# Altium footprint library Ferrit Bead.PcbLib: 5 footprints
Each footprint in its own frame and in the unit in brackets; x right, y up, seen from the top. Pads: shape width x height; smd on the part's side, far side on the other; paste and mask are expansions set on the pad; w line width, h text height; cw(c..) or ccw(c..) is an arc to the next point about the centre after c.
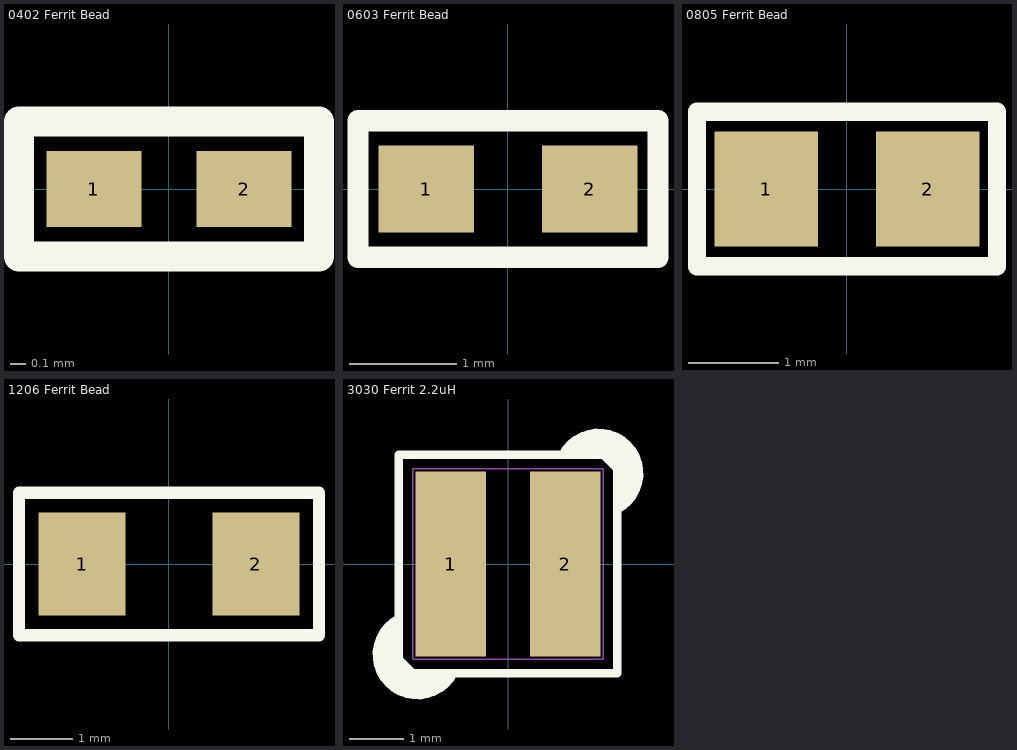
[diagram p0: the footprints below, top view; thin cyan lines are the x and y axes]

## 0402 Ferrit Bead [mil]
pads (2):
  rect 25x20 smd: 1(-19.69,0) 2(19.69,0)
Top Overlay:
  lines w7.87: -39.37,-17.72 39.37,-17.72 39.37,17.72 -39.37,17.72 -39.37,-17.72
3D body "User Library-FB_1005.STEP": height 9.84, standoff -9.84, extent -19.69,-9.84 19.69,9.84

## 0603 Ferrit Bead [mil]
pads (2):
  rect 35x32 smd: 1(-30,0) 2(30,0)
Top Overlay:
  lines w7.87: -55,-25 55,-25 55,25 -55,25 -55,-25
3D body "User Library-FB_1608-1.STEP": height 15.75, standoff -15.75, extent -31.5,-15.75 31.5,15.75

## 0805 Ferrit Bead [mil]
pads (2):
  rect 45x50 smd: 1(-35,0) 2(35,0)
Top Overlay:
  lines w7.87: -65,-33.46 -65,33.46 65,33.46 65,-33.46 -65,-33.46
3D body "User Library-FB_2012-1.STEP": height 33.46, standoff 0, extent -39.37,-24.61 39.37,24.6

## 1206 Ferrit Bead [mil]
pads (2):
  rect 55x65 smd: 1(-55,0) 2(55,0)
Top Overlay:
  lines w7.87: -95,-45 95,-45 95,45 -95,45 -95,-45
3D body "User Library-1206 Ferrite bead.STEP": height 25.63, standoff -25.63, extent -63,-31.5 63,31.5

## 3030 Ferrit 2.2uH [mm]
pads (2):
  rect 1.3x3.4 smd: 1(-1.05,0) 2(1.05,0)
Top Overlay:
  lines w0.15: -2.4,-1.6 -1.6,-2.4 ; -2.1,-1.7 -2.1,-1.15 -2.2,-1.2 -2.2,-1.575 -1.675,-2.1 -1.2,-2.1 -1.2,-2 -1.5,-2.3 ; -1.6,-2 -1.6,-2.15 -1.5,-2.1 -1.5,-2.3 ; -1.3,-2.3 -1,-2 ; 1.3,2.3 1,2 ; 1.6,2.15 1.6,2 1.5,2.1 1.5,2.3 ; 1.6,2.4 2.4,1.6 2.3,1.5 1.5,2.3 ; 2.1,1.7 2.1,1.15 2.2,1.2 2.2,1.575 1.675,2.1 1.2,2.1 1.2,2 1.5,2.3 ; 2.3,1.4 2.3,1.9 2.325,1.875 1.9,2.3 1.5,2.3 ; -1.5,-2.3 -2.3,-1.5 -2.3,-1.4 -2.3,-1.9 -2.325,-1.875 -1.9,-2.3 -1.5,-2.3 ; -1,-2 cw(c-1.663,-1.663) -2,-1 -2,-1.75 -1.75,-2 -1,-2 ; 1,2 cw(c1.663,1.663) 2,1 2,1.75 1.75,2 1,2
  lines w0.154: -2,-1.75 -1.75,-2 2,-2 2,1.75 1.75,2 -2,2 -2,-1.75
Mechanical 11:
  lines w0.025: -1.75,-1.75 1.75,-1.75 1.75,1.75 -1.75,1.75 -1.75,-1.75
Mechanical 12:
  lines w0.025: -1.75,-1.75 1.75,-1.75 1.75,1.75 -1.75,1.75 -1.75,-1.75
3D body "Inductor SMD 3x3 semi-shielded 2,2uH.stp": height 1, standoff 0, extent -1.501,-1.5 1.501,1.5